# Altium schematic symbol library voltage_ref.SchLib: 31 symbols
Pins are listed as number, name and electrical type; pins without a type are passive.

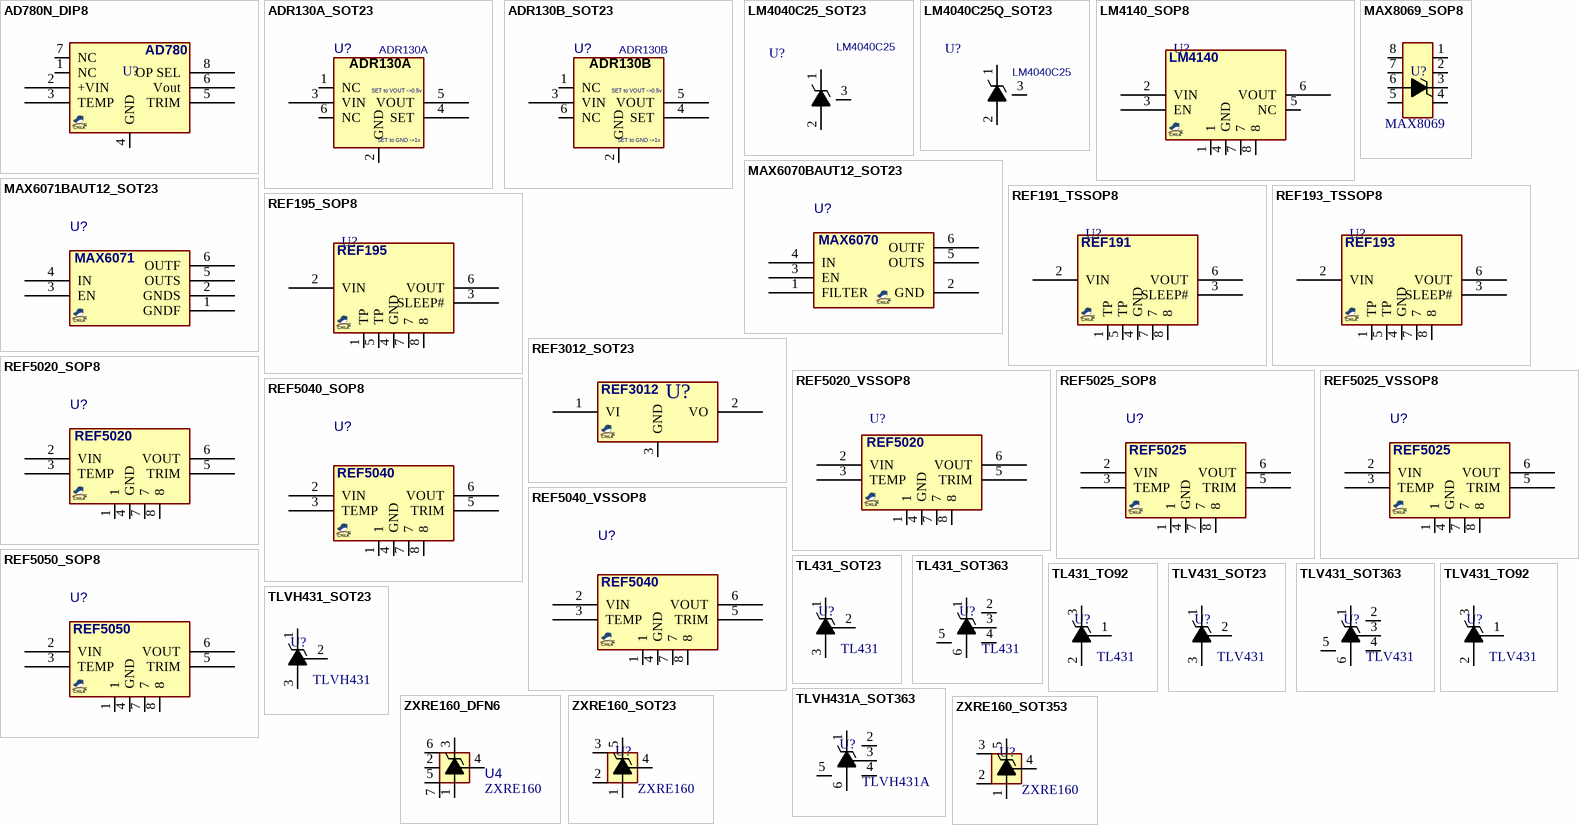
[diagram p0: symbols AD780N_DIP8 to ZXRE160_SOT353]

## AD780N_DIP8
designator U?, comment AD780N  (value not drawn)
VREF, 2.5 V/3.0 V High Precision; MANF: Analog Devices; MANF_P#: AD780ARZ-ND; PARAM2: 2.5V/3V; VALUE: AD780N; PACKAGE: DIP-8
footprint DIP_8 (DIP, pitch 2.54mm, 300mil Width)
footprint SO_8
pins: 1 NC, 2 +VIN, 3 TEMP, 4 GND, 5 TRIM, 6 Vout, 7 NC, 8 OP SEL
text: AD780

## ADR130A_SOT23
designator U?, comment ADR130A
VREF, Sub-Band Gap; MANF: Analog Devices; MANF_P#: ADR130AUJZ; PARAM2: 0.5/1v, 2~18VIN; PARAM: ±0.70%, 50 ppm/°C, -40~125°C; PACKAGE: SOT23-6; VALUE: ADR130A
footprint SOT23_6 (SOT-23-6, DDC, DBV, MICRO6, SOT-26, SOT457, SuperSOT6, TSOP-6, HMC313, TSOT, 1.5x3mm, Pitch 0.65mm, CA531, MO-178AB, MO-193AA)
pins: 1 NC, 2 GND, 3 VIN, 4 SET, 5 VOUT, 6 NC
text: SET to VOUT ->0.5v; SET to GND ->1v

## ADR130B_SOT23
designator U?, comment ADR130B
VREF, Sub-Band Gap; MANF: Analog Devices; MANF_P#: ADR130BUJZ; PARAM2: 0.5/1v, 2~18VIN; PARAM: ±0.35%, 25 ppm/°C, -40~125°C; PACKAGE: SOT23-6; VALUE: ADR130B
footprint SOT23_6 (SOT-23-6, DDC, DBV, MICRO6, SOT-26, SOT457, SuperSOT6, TSOP-6, HMC313, TSOT, 1.5x3mm, Pitch 0.65mm, CA531, MO-178AB, MO-193AA)
pins: 1 NC, 2 GND, 3 VIN, 4 SET, 5 VOUT, 6 NC
text: SET to VOUT ->0.5v; SET to GND ->1v

## LM4040C25_SOT23
designator U?, comment LM4040C25
VREF, 2.5V, 100ppm, 0.5%, SO23-3; MANF_P#: LM4040C25IDBZR, LM4040C25FTA; MANF: Texas Instruments, Diodes; PARAM: 15mA, 100PPM, 0.5%; PARAM2: 2.5v; PACKAGE: SOT23-3; VALUE: LM4040C25
footprint SOT23_3 (SOT-23, Micro3, MO-178, TO-236AB, MO-193C, SuperSOT3, SC-59, 1.5x3mm, Pitch 1.9mm)
pins: 1 K, 2 A, 3 NC

## LM4040C25Q_SOT23
designator U?, comment LM4040C25
VREF, 2.5V, 100ppm, 0.5%, SO23-3; MANF_P#: LM4040C25QDBZR, LM4040C25QFTA; MANF: Texas Instruments, Diodes; PARAM: 15mA, 100PPM, 0.5%; PARAM2: 2.5v; PACKAGE: SOT23-3; VALUE: LM4040C25
footprint SOT23_3 (SOT-23, Micro3, MO-178, TO-236AB, MO-193C, SuperSOT3, SC-59, 1.5x3mm, Pitch 1.9mm)
pins: 1 K, 2 A, 3 NC

## LM4140_SOP8
designator U?, comment LM4140  (value not drawn)
VREF, 1.024V, 3ppm, 0.1%, SOP-8; MANF_P#: LM4140ACM-1.0; MANF: Texas Instruments; PARAM: 0~70oC; PARAM2: 1.024V; VALUE: LM4140; PACKAGE: SOP-8
footprint SO_8 (SOP-8, 5x3.9mm body 1.27mm pitch, SOT96-1, M08A, S8, SOIC8, VO8, MS-012AA(JEDEC), R-8, 8S2, VOG8)
pins: 1 (power), 2 VIN, 3 EN, 4 GND, 5 NC, 6 VOUT, 7 (power), 8 (power)

## MAX6070BAUT12_SOT23
designator U?, comment MAX6070  (value not drawn)
VREF, 1.25V, 1.5ppm/°C; MANF: Maxim; PARAM: 1.5ppm/°C, -40~125°C; DESC: DESCRIPTION; MANF_P#: MAX6070BAUT12+T; PARAM2: 1.25V, 2.7~5.5Vin; ASSEMBLY: ASSEMBLY; PRICE: 2$@MOUSER; VALUE: MAX6070; PACKAGE: SOT23-6
footprint SOT23_6 (SOT-23-6, DDC, DBV, MICRO6, SOT-26, SOT457, SuperSOT6, TSOP-6, HMC313, MO-178AB, MO-193AA, TSOT, 1.5x3mm, Pitch 0.65mm)
pins: 1 FILTER, 2 GND, 3 EN, 4 IN, 5 OUTS, 6 OUTF
2 alternate drawings of the same symbol

## MAX6071BAUT12_SOT23
designator U?, comment MAX6071  (value not drawn)
VREF, 1.25V, 1.5ppm/°C; MANF: Maxim; PARAM: 1.5ppm/°C, -40~125°C; DESC: DESCRIPTION; MANF_P#: MAX6071BAUT12+T; PARAM2: 1.25V, 2.7~5.5Vin; ASSEMBLY: ASSEMBLY; PRICE: 2$@MOUSER; VALUE: MAX6071; PACKAGE: SOT23-6
footprint SOT23_6 (SOT-23-6, DDC, DBV, MICRO6, SOT-26, SOT457, SuperSOT6, TSOP-6, HMC313, MO-178AB, MO-193AA, TSOT, 1.5x3mm, Pitch 0.65mm)
pins: 1 GNDF, 2 GNDS, 3 EN, 4 IN, 5 OUTS, 6 OUTF
2 alternate drawings of the same symbol

## MAX8069_SOP8
designator U?, comment MAX8069
VREF, 1.2V; MANF_P#: MAX8069; VALUE: MAX8069; PACKAGE: SOP-8
footprint SO_8
pins: 1, 2, 3 C, 4, 5, 6 A, 7, 8

## REF191_TSSOP8
designator U?, comment REF191  (value not drawn)
VREF, 2.048V, 4ppm, TSSOP-8; MANF_P#: REF191GRU; MANF: Analog Devices; VALUE: REF191; PACKAGE: TSSOP-8
footprint SOG65_8 (PW TSSOP (TI), MO-153 (JEDEC), 8Lead, pitch: 0.65mm, 3x4.4x1.2mm)
pins: 1 TP (power), 2 VIN, 3 SLEEP#, 4 GND, 5 TP, 6 VOUT, 7 (power), 8 (power)

## REF193_TSSOP8
designator U?, comment REF193  (value not drawn)
VREF, 3.0V, 4ppm, TSSOP-8; MANF_P#: REF193GRU; MANF: Analog Devices; VALUE: REF193; PACKAGE: TSSOP-8
footprint SOG65_8 (PW TSSOP (TI), MO-153 (JEDEC), 8Lead, pitch: 0.65mm, 3x4.4x1.2mm)
pins: 1 TP (power), 2 VIN, 3 SLEEP#, 4 GND, 5 TP, 6 VOUT, 7 (power), 8 (power)

## REF195_SOP8
designator U?, comment REF195  (value not drawn)
VREF, 5V, 4ppm, SOP-8; MANF_P#: REF195ES, REF195FS, REF195GS; MANF: Analog Devices; VALUE: REF195; PACKAGE: SOP-8
footprint SO_8 (SOP-8, 5x3.9mm body 1.27mm pitch, SOT96-1, M08A, S8, SOIC8, VO8, MS-012AA(JEDEC), R-8, 8S2, VOG8)
pins: 1 TP (power), 2 VIN, 3 SLEEP#, 4 GND, 5 TP, 6 VOUT, 7 (power), 8 (power)

## REF3012_SOT23
designator U?, comment REF3012  (value not drawn)
VREF, 1.2V; MANF: TEXAS INSTRUMENTS; MANF_P#: REF3012AIDBZT; VALUE: REF3012; PACKAGE: SOT23-3
footprint SOT23_3
pins: 1 VI, 2 VO, 3 GND

## REF5020_SOP8
designator U?, comment REF5020  (value not drawn)
VREF, 2.048V; MANF: TI; DESC: DESCRIPTION; MANF_P#: REF5020ID; PARAM2: 2.048V, 2.25~18VIN; ASSEMBLY: ASSEMBLY; PRICE: 2$@MOUSER; VALUE: REF5020; PACKAGE: SOP-8
footprint SO_8
pins: 1 (power), 2 VIN, 3 TEMP, 4 GND, 5 TRIM, 6 VOUT, 7 (power), 8 (power)
2 alternate drawings of the same symbol

## REF5020_VSSOP8
designator U?, comment REF5020  (value not drawn)
VREF, 2.048V, 3ppm, VSSOP-8; MANF_P#: REF5020IDGK; MANF: Texas Instruments; PARAM2: 2.048V, 2.25~18VIN; VALUE: REF5020; PACKAGE: VSSOP-8
footprint SOG65_8_3 (pitch: 0.65mm, 3.0mmX3.0mm, SSOP DCT SM8 (TI), TSSOP8, MICRO8, DGK, MSOP8, RM-8, MS8, MSOP-8, usop8/8uSOP)
pins: 1 (power), 2 VIN, 3 TEMP, 4 GND, 5 TRIM, 6 VOUT, 7 (power), 8 (power)

## REF5025_SOP8
designator U?, comment REF5025  (value not drawn)
VREF, 2.5V; MANF: TI; DESC: DESCRIPTION; MANF_P#: REF5025IDR; PARAM2: 2.5v, 2.25~18VIN; ASSEMBLY: ASSEMBLY; PRICE: 6.3$@MOUSER; VALUE: REF5025; PACKAGE: SOP-8
footprint SO_8
pins: 1 (power), 2 VIN, 3 TEMP, 4 GND, 5 TRIM, 6 VOUT, 7 (power), 8 (power)
2 alternate drawings of the same symbol

## REF5025_VSSOP8
designator U?, comment REF5025  (value not drawn)
VREF, 2.5V; MANF: TI; DESC: DESCRIPTION; MANF_P#: REF5025AIDGK; PARAM2: 2.5v, 2.25~18VIN; ASSEMBLY: ASSEMBLY; PRICE: 3$@MOUSER; VALUE: REF5025; PACKAGE: VSSOP-8
footprint SOG65_8_3 (pitch: 0.65mm, 3.0mmX3.0mm, SSOP DCT SM8 (TI), TSSOP8, MICRO8, DGK, MSOP8, RM-8, MS8, MSOP-8, usop8/8uSOP)
pins: 1 (power), 2 VIN, 3 TEMP, 4 GND, 5 TRIM, 6 VOUT, 7 (power), 8 (power)
2 alternate drawings of the same symbol

## REF5040_SOP8
designator U?, comment REF5040  (value not drawn)
VREF, 4.096V , 3ppm, SOP-8; MANF: Texas Instruments; PARAM: ±10mA OUT, -40~125°C; DESC: IC, VREF, 4.096V; MANF_P#: REF5040AIDR; PARAM2: 4.096v, 2.25~18VIN; ASSEMBLY: ASSEMBLY; PRICE: 3$; DIST#: -; VALUE: REF5040; PACKAGE: SOP-8
footprint SO_8 (SOP-8, 5x3.9mm body 1.27mm pitch, SOT96-1, M08A, S8, SOIC8, VO8, MS-012AA(JEDEC), R-8, 8S2, VOG8)
pins: 1 (power), 2 VIN, 3 TEMP, 4 GND, 5 TRIM, 6 VOUT, 7 (power), 8 (power)

## REF5040_VSSOP8
designator U?, comment REF5040  (value not drawn)
VREF, 4.096V , 3ppm, VSSOP-8; MANF: Texas Instruments; PARAM: ±10mA OUT, -40~125°C; DESC: IC, VREF, 4.096V; DIST#: MOUSER/595-REF5040IDGKT; MANF_P#: REF5040IDGKT; PARAM2: 4.096v, 2.25~18VIN; ASSEMBLY: ASSEMBLY; PRICE: 1=6.65$; VALUE: REF5040; PACKAGE: VSSOP-8
footprint SOG65_8_3 (pitch: 0.65mm, 3.0mmX3.0mm, SSOP DCT SM8 (TI), TSSOP8, MICRO8, DGK, MSOP8, RM-8, MS8, MSOP-8, usop8/8uSOP)
pins: 1 (power), 2 VIN, 3 TEMP, 4 GND, 5 TRIM, 6 VOUT, 7 (power), 8 (power)

## REF5050_SOP8
designator U?, comment REF5050  (value not drawn)
VREF, 5V, 3 PPM, 0.05 %; MANF: TI; DESC: DESCRIPTION; MANF_P#: REF5050ID, REF5050AID, REF5050AQD; PARAM2: 5V, 2.25~18VIN; ASSEMBLY: ASSEMBLY; PARAM: 3 PPM, 0.05 %; PRICE: 3$; VALUE: REF5050; PACKAGE: SOP-8
footprint SO_8
pins: 1 (power), 2 VIN, 3 TEMP, 4 GND, 5 TRIM, 6 VOUT, 7 (power), 8 (power)
2 alternate drawings of the same symbol

## TL431_SOT23
designator U?, comment TL431
VREF, Programmable Precision; MANF_P#: TL431_SOT23; VALUE: TL431; PACKAGE: SOT23-3
footprint SOT23_3 (SOT-23, Micro3, MO-178, TO-236AB, MO-193C, SuperSOT3, SC-59, DSO190_3_300X150)
pins: 1 K, 2 REF, 3 A

## TL431_SOT363
designator U?, comment TL431
VREF, Programmable Precision; MANF: Texas Instruments, Diodes; MANF_P#: TL431BIDCK, ZTL431AH6TA; PRICE: 0.5$; PACKAGE: SC-70-6; VALUE: TL431
footprint SOT363_6 (SOT-363, SC-70-6, DCK, BFS483, SC-88, MO-203AB, DSO65_6_200X130)
pins: 1 K, 2 NC, 3 REF, 4 NC, 5 NC, 6 A

## TL431_TO92
designator U?, comment TL431
VREF, Programmable Precision; MANF_P#: TL431_TO92; VALUE: TL431; PACKAGE: TO92
footprint TO92_3 (TO-92)
pins: 1 REF, 2 A, 3 K

## TLV431_SOT23
designator U?, comment TLV431
VREF, Programmable Precision; DESC: TLV431BSN1T1G, TLV431AIDBZ, TLV431BIDBZ, TLV431ACDBZ, ZTLV431AFTA, TLV431ASN1T1G, TLV431IDBZ, TLV431BQDBZ, TLV431BCDBZ, TLV431TFTA, TLV431CDBZ; MANF: Texas Instruments, Diodes, ON; MANF_P#: TLV431AQFTA, TLV431BQFTA, TLV431BQDBZRQ1; PARAM2: 1.24VREF, 1.24~18VAK; PRICE: 0.5$; VALUE: TLV431; PACKAGE: SOT23-3
footprint SOT23_3 (SOT-23, Micro3, MO-178, TO-236AB, MO-193C, SuperSOT3, SC-59, 1.9mm pitch 3X1.5mm body)
pins: 1 K, 2 REF, 3 A

## TLV431_SOT363
designator U?, comment TLV431
VREF, Programmable Precision; DESC: TLV431AH6TA, TLV431BH6TA; MANF: Texas Instruments, Diodes; MANF_P#: TLV431BCDCK, TLV431BIDCK, TLV431BQDCK; PARAM2: 1.24VREF, 1.24~18VAK; PRICE: 0.8$; VALUE: TLV431; PACKAGE: SC-70-6
footprint SOT363_6 (SOT-363, SC-70-6, DCK, BFS483, SC-88, MO-203AB, DSO65_6_200X130)
pins: 1 K, 2 NC, 3 REF, 4 NC, 5 NC, 6 A

## TLV431_TO92
designator U?, comment TLV431
VREF, Programmable Precision; MANF: Texas Instruments, ON; MANF_P#: TLV431BILP, TLV431ALPRAG, TLV431BILP; PARAM2: 1.24VREF, 1.24~18VAK; PRICE: 0.8$; VALUE: TLV431; PACKAGE: TO92
footprint TO92_3 (TO-92, SOT54)
pins: 1 REF, 2 A, 3 K

## TLVH431_SOT23
designator U?, comment TLVH431
VREF, Programmable Precision; MANF: Texas Instruments; MANF_P#: TLVH431CDBZ; PARAM2: 1.24VREF, 1.24~18VAK; PRICE: 0.5$; VALUE: TLVH431; PACKAGE: SOT23-3
footprint SOT23_3 (SOT-23, Micro3, MO-178, TO-236AB, MO-193C, SuperSOT3, SC-59, 1.9mm pitch 3X1.5mm body)
pins: 1 K, 2 REF, 3 A

## TLVH431A_SOT363
designator U?, comment TLVH431A
VREF, Programmable Precision; MANF: ST; MANF_P#: TLVH431AICT, TLVH431ACDCK; PARAM2: 1.24VREF, 1.24~18VAK; PRICE: 0.5$; PACKAGE: SC-70-6; VALUE: TLVH431A
footprint SOT363_6 (SOT-363, SC-70-6, DCK, BFS483, SC-88, MO-203AB, 2X1.2mm, 0.65mm pitch)
pins: 1 K, 2 NC, 3 REF, 4 NC, 5 NC, 6 A

## ZXRE160_DFN6
designator U4, comment ZXRE160
VREF, Programmable Precision, 0.6VFB; MANF: Diodes; MANF_P#: ZXRE160FT4-7; PARAM2: 2~18VIN, 0.6VFB; PARAM: -40~125°C; PRICE: 0.7$; PACKAGE: DFN-6-1.5X2; VALUE: ZXRE160
footprint SON50_6T_1520 (X2-DFN1520-6,  6-Lead DFN Pitch: 0.5mm 1.5x2x0.8mm)
pins: 1 PGND, 2 NC, 3 OUT, 4 FB, 5 GND, 6 IN, 7

## ZXRE160_SOT23
designator U?, comment ZXRE160
VREF, Programmable Precision, 0.6VFB; MANF: Diodes; MANF_P#: ZXRE160ET5TA; PARAM2: 2~18VIN, 0.6VFB; PARAM: -40~125°C; PRICE: 0.7$; VALUE: ZXRE160; PACKAGE: SOT23-3
footprint SOT23_5 (SOT-23-5, SOT25, SOT-25, DBV(R-PDSO-G5), SOT753, TSOT23-5, SC-74A, SOT23-5, S5-T (LINEAR), MO-178AA, MO-193AB(JEDEC), MF05A (NS), TSOP-5(ON), UJ-5 (AD), 0.95mm pitch 3X1.5mm)
pins: 1 PGND, 2 GND, 3 IN, 4 FB, 5 OUT

## ZXRE160_SOT353
designator U?, comment ZXRE160
VREF, Programmable Precision, 0.6VFB; MANF: Diodes; MANF_P#: ZXRE160H5TA; PARAM2: 2~18VIN, 0.6VFB; PARAM: -40~125°C; PRICE: 0.7$; VALUE: ZXRE160; PACKAGE: SC-70-5
footprint SOT353_5 (SC-88A, SC70-5, TSSOP5, SOT-353, DCK (TI), 0.65mm pitch 2X1.3mm body)
pins: 1 PGND, 2 GND, 3 IN, 4 FB, 5 OUT